# Altium footprint library ST ARM32.PcbLib: 5 footprints
Each footprint in its own frame and in the unit in brackets; x right, y up, seen from the top. Pads: shape width x height; smd on the part's side, far side on the other; paste and mask are expansions set on the pad; w line width, h text height; cw(c..) or ccw(c..) is an arc to the next point about the centre after c.
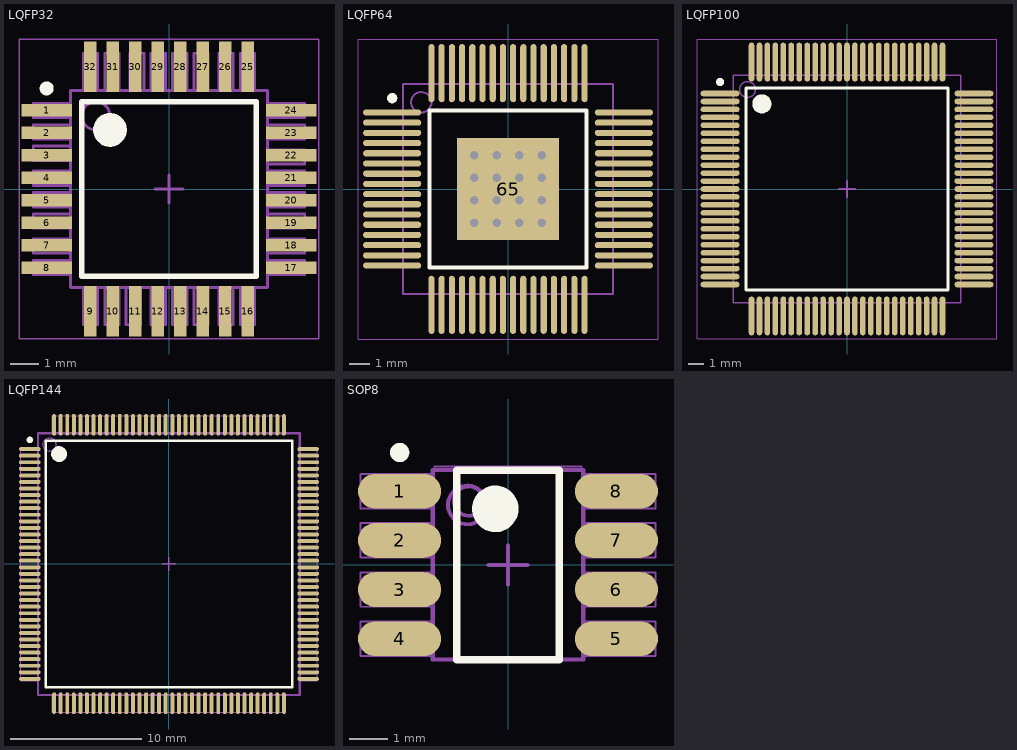
[diagram p0: the footprints below, top view; thin cyan lines are the x and y axes]

## LQFP32 [mm] "LQFP, 32-Leads, Body 7.00x7.00mm, Pitch 0.80mm, IPC Medium Density"
height 1.45
pads (32):
  rect 1.8x0.45 smd: 1(-4.35,2.8) 2(-4.35,2) 3(-4.35,1.2) 4(-4.35,0.4) 5(-4.35,-0.4) 6(-4.35,-1.2) 7(-4.35,-2) 8(-4.35,-2.8) 17(4.35,-2.8) 18(4.35,-2) 19(4.35,-1.2) 20(4.35,-0.4) 21(4.35,0.4) 22(4.35,1.2) 23(4.35,2) 24(4.35,2.8)
  rect 0.45x1.8 smd: 9(-2.8,-4.35) 10(-2,-4.35) 11(-1.2,-4.35) 12(-0.4,-4.35) 13(0.4,-4.35) 14(1.2,-4.35) 15(2,-4.35) 16(2.8,-4.35) 25(2.8,4.35) 26(2,4.35) 27(1.2,4.35) 28(0.4,4.35) 29(-0.4,4.35) 30(-1.2,4.35) 31(-2,4.35) 32(-2.8,4.35)
Top Overlay:
  circle w0.6: c-2.1,2.1 r0.3
  circle w0.25: c-4.35,3.575 r0.125
  lines w0.2: -3.1,-3.1 3.1,-3.1 3.1,3.1 -3.1,3.1 -3.1,-3.1
Mechanical 13:
  circle w0.1: c-2.6,2.6 r0.5
  lines w0.1: -3.5,-3.048 -4.826,-3.048 -4.826,-2.54 -3.5,-2.54 ; -3.5,-2.286 -4.826,-2.286 -4.826,-1.778 -3.5,-1.778 ; -3.5,-1.397 -4.826,-1.397 -4.826,-0.889 -3.5,-0.889 ; -3.5,-0.635 -4.826,-0.635 -4.826,-0.127 -3.5,-0.127 ; -3.5,0.127 -4.826,0.127 -4.826,0.635 -3.5,0.635 ; -3.5,1.016 -4.826,1.016 -4.826,1.524 -3.5,1.524 ; -3.5,1.778 -4.826,1.778 -4.826,2.286 -3.5,2.286 ; -3.5,2.54 -4.826,2.54 -4.826,3.048 -3.5,3.048 ; -3.048,-3.5 -3.048,-4.826 -2.54,-4.826 -2.54,-3.5 ; -3.048,3.5 -3.048,4.826 -2.54,4.826 -2.54,3.5 ; -2.286,-3.5 -2.286,-4.826 -1.778,-4.826 -1.778,-3.5 ; -2.286,3.5 -2.286,4.826 -1.778,4.826 -1.778,3.5 ; -1.524,-3.5 -1.524,-4.826 -1.016,-4.826 -1.016,-3.5 ; -1.397,3.5 -1.397,4.826 -0.889,4.826 -0.889,3.5 ; -0.635,-3.5 -0.635,-4.826 -0.127,-4.826 -0.127,-3.5 ; -0.635,3.5 -0.635,4.826 -0.127,4.826 -0.127,3.5 ; 0.127,-3.5 0.127,-4.826 0.635,-4.826 0.635,-3.5 ; 0.127,3.5 0.127,4.826 0.635,4.826 0.635,3.5 ; 0.889,-3.5 0.889,-4.826 1.397,-4.826 1.397,-3.5 ; 0.889,3.5 0.889,4.826 1.397,4.826 1.397,3.5 ; 1.778,-3.5 1.778,-4.826 2.286,-4.826 2.286,-3.5 ; 1.778,3.5 1.778,4.826 2.286,4.826 2.286,3.5 ; 2.54,-3.5 2.54,-4.826 3.048,-4.826 3.048,-3.5 ; 2.54,3.5 2.54,4.826 3.048,4.826 3.048,3.5 ; 3.5,-3.048 4.826,-3.048 4.826,-2.54 3.5,-2.54 ; 3.5,-2.286 4.826,-2.286 4.826,-1.778 3.5,-1.778 ; 3.5,-1.397 4.826,-1.397 4.826,-0.889 3.5,-0.889 ; 3.5,-0.635 4.826,-0.635 4.826,-0.127 3.5,-0.127 ; 3.5,0.127 4.826,0.127 4.826,0.635 3.5,0.635 ; 3.5,0.889 4.826,0.889 4.826,1.397 3.5,1.397 ; 3.5,1.778 4.826,1.778 4.826,2.286 3.5,2.286 ; 3.5,2.54 4.826,2.54 4.826,3.048 3.5,3.048 ; -3.5,-3.5 3.5,-3.5 3.5,3.5 -3.5,3.5 -3.5,-3.5
  text ".Designator" at -1.27,0 h0.8
  text "1" at -5.969,2.667 h0.8
Mechanical 15:
  lines w0.05: -5.334,-5.334 5.334,-5.334 5.334,5.334 -5.334,5.334 -5.334,-5.334
  lines w0.1: -0.5,0 0.5,0 ; 0,-0.5 0,0.5
3D body "LQFP32.STEP": height 1.62, standoff -0.01, extent -4.572,-4.572 4.572,4.572

## LQFP64 [mm]
height 1.6
pads (65):
  oval 2.85x0.3 smd: 1(-5.675,3.75) 2(-5.675,3.25) 3(-5.675,2.75) 4(-5.675,2.25) 5(-5.675,1.75) 6(-5.675,1.25) 7(-5.675,0.75) 8(-5.675,0.25) 9(-5.675,-0.25) 10(-5.675,-0.75) 11(-5.675,-1.25) 12(-5.675,-1.75) 13(-5.675,-2.25) 14(-5.675,-2.75) 15(-5.675,-3.25) 16(-5.675,-3.75) 33(5.675,-3.75) 34(5.675,-3.25) 35(5.675,-2.75) 36(5.675,-2.25) 37(5.675,-1.75) 38(5.675,-1.25) 39(5.675,-0.75) 40(5.675,-0.25) 41(5.675,0.25) 42(5.675,0.75) 43(5.675,1.25) 44(5.675,1.75) 45(5.675,2.25) 46(5.675,2.75) 47(5.675,3.25) 48(5.675,3.75)
  oval 0.3x2.85 smd: 17(-3.75,-5.675) 18(-3.25,-5.675) 19(-2.75,-5.675) 20(-2.25,-5.675) 21(-1.75,-5.675) 22(-1.25,-5.675) 23(-0.75,-5.675) 24(-0.25,-5.675) 25(0.25,-5.675) 26(0.75,-5.675) 27(1.25,-5.675) 28(1.75,-5.675) 29(2.25,-5.675) 30(2.75,-5.675) 31(3.25,-5.675) 32(3.75,-5.675) 49(3.75,5.675) 50(3.25,5.675) 51(2.75,5.675) 52(2.25,5.675) 53(1.75,5.675) 54(1.25,5.675) 55(0.75,5.675) 56(0.25,5.675) 57(-0.25,5.675) 58(-0.75,5.675) 59(-1.25,5.675) 60(-1.75,5.675) 61(-2.25,5.675) 62(-2.75,5.675) 63(-3.25,5.675) 64(-3.75,5.675)
  rect 5x5 smd: 65(0,0)
via 1.65,-1.65 diameter 0.8 hole 0.4
via 0.55,-1.65 diameter 0.8 hole 0.4
via -0.55,-1.65 diameter 0.8 hole 0.4
via -1.65,-1.65 diameter 0.8 hole 0.4
via 1.65,-0.55 diameter 0.8 hole 0.4
via 0.55,-0.55 diameter 0.8 hole 0.4
via -0.55,-0.55 diameter 0.8 hole 0.4
via -1.65,-0.55 diameter 0.8 hole 0.4
via 1.65,0.55 diameter 0.8 hole 0.4
via 0.55,0.55 diameter 0.8 hole 0.4
via -0.55,0.55 diameter 0.8 hole 0.4
via -1.65,0.55 diameter 0.8 hole 0.4
via 1.65,1.65 diameter 0.8 hole 0.4
via 0.55,1.65 diameter 0.8 hole 0.4
via -0.55,1.65 diameter 0.8 hole 0.4
via -1.65,1.65 diameter 0.8 hole 0.4
Top Overlay:
  circle w0.25: c-5.675,4.45 r0.125
  lines w0.2: -3.85,-3.85 3.85,-3.85 3.85,3.85 -3.85,3.85 -3.85,-3.85
Mechanical 13:
  circle w0.1: c-4.25,4.25 r0.5
  lines w0.1: -5.15,-5.15 5.15,-5.15 5.15,5.15 -5.15,5.15 -5.15,-5.15
Mechanical 15:
  lines w0.05: -7.35,-7.35 7.35,-7.35 7.35,7.35 -7.35,7.35 -7.35,-7.35
  lines w0.1: -0.5,0 0.5,0 ; 0,-0.5 0,0.5
3D body "lqfp64.STEP": height 1.6, standoff 0, extent -6,-6 6,6

## LQFP100 [mm]
height 2.45
pads (100):
  oval 2.45x0.35 smd: 1(-7.975,6) 2(-7.975,5.5) 3(-7.975,5) 4(-7.975,4.5) 5(-7.975,4) 6(-7.975,3.5) 7(-7.975,3) 8(-7.975,2.5) 9(-7.975,2) 10(-7.975,1.5) 11(-7.975,1) 12(-7.975,0.5) 13(-7.975,0) 14(-7.975,-0.5) 15(-7.975,-1) 16(-7.975,-1.5) 17(-7.975,-2) 18(-7.975,-2.5) 19(-7.975,-3) 20(-7.975,-3.5) 21(-7.975,-4) 22(-7.975,-4.5) 23(-7.975,-5) 24(-7.975,-5.5) 25(-7.975,-6) 51(7.975,-6) 52(7.975,-5.5) 53(7.975,-5) 54(7.975,-4.5) 55(7.975,-4) 56(7.975,-3.5) 57(7.975,-3) 58(7.975,-2.5) 59(7.975,-2) 60(7.975,-1.5) 61(7.975,-1) 62(7.975,-0.5) 63(7.975,0) 64(7.975,0.5) 65(7.975,1) 66(7.975,1.5) 67(7.975,2) 68(7.975,2.5) 69(7.975,3) 70(7.975,3.5) 71(7.975,4) 72(7.975,4.5) 73(7.975,5) 74(7.975,5.5) 75(7.975,6)
  oval 0.35x2.45 smd: 26(-6,-7.975) 27(-5.5,-7.975) 28(-5,-7.975) 29(-4.5,-7.975) 30(-4,-7.975) 31(-3.5,-7.975) 32(-3,-7.975) 33(-2.5,-7.975) 34(-2,-7.975) 35(-1.5,-7.975) 36(-1,-7.975) 37(-0.5,-7.975) 38(0,-7.975) 39(0.5,-7.975) 40(1,-7.975) 41(1.5,-7.975) 42(2,-7.975) 43(2.5,-7.975) 44(3,-7.975) 45(3.5,-7.975) 46(4,-7.975) 47(4.5,-7.975) 48(5,-7.975) 49(5.5,-7.975) 50(6,-7.975) 76(6,7.975) 77(5.5,7.975) 78(5,7.975) 79(4.5,7.975) 80(4,7.975) 81(3.5,7.975) 82(3,7.975) 83(2.5,7.975) 84(2,7.975) 85(1.5,7.975) 86(1,7.975) 87(0.5,7.975) 88(0,7.975) 89(-0.5,7.975) 90(-1,7.975) 91(-1.5,7.975) 92(-2,7.975) 93(-2.5,7.975) 94(-3,7.975) 95(-3.5,7.975) 96(-4,7.975) 97(-4.5,7.975) 98(-5,7.975) 99(-5.5,7.975) 100(-6,7.975)
Top Overlay:
  circle w0.25: c-7.975,6.725 r0.125
  circle w0.6: c-5.35,5.35 r0.3
  lines w0.2: -6.35,-6.35 -6.35,6.35 6.35,6.35 6.35,-6.35 -6.35,-6.35
Mechanical 13:
  circle w0.1: c-6.25,6.25 r0.5
  lines w0.1: -7.15,-7.15 -7.15,7.15 7.15,7.15 7.15,-7.15 -7.15,-7.15
Mechanical 15:
  lines w0.05: -9.425,-9.425 -9.425,9.425 9.425,9.425 9.425,-9.425 -9.425,-9.425
  lines w0.1: -0.5,0 0.5,0 ; 0,-0.5 0,0.5
3D body: height 2.45, standoff 0.25, extent -7.15,-7.15 7.15,7.15

## LQFP144 [mm] "TSQFP, 144-Leads, Body 20.00x20.00mm, Pitch 0.50mm, IPC Medium Density"
height 1.6
pads (144):
  oval 1.65x0.3 smd: 1(-10.6,8.75) 2(-10.6,8.25) 3(-10.6,7.75) 4(-10.6,7.25) 5(-10.6,6.75) 6(-10.6,6.25) 7(-10.6,5.75) 8(-10.6,5.25) 9(-10.6,4.75) 10(-10.6,4.25) 11(-10.6,3.75) 12(-10.6,3.25) 13(-10.6,2.75) 14(-10.6,2.25) 15(-10.6,1.75) 16(-10.6,1.25) 17(-10.6,0.75) 18(-10.6,0.25) 19(-10.6,-0.25) 20(-10.6,-0.75) 21(-10.6,-1.25) 22(-10.6,-1.75) 23(-10.6,-2.25) 24(-10.6,-2.75) 25(-10.6,-3.25) 26(-10.6,-3.75) 27(-10.6,-4.25) 28(-10.6,-4.75) 29(-10.6,-5.25) 30(-10.6,-5.75) 31(-10.6,-6.25) 32(-10.6,-6.75) 33(-10.6,-7.25) 34(-10.6,-7.75) 35(-10.6,-8.25) 36(-10.6,-8.75) 73(10.6,-8.75) 74(10.6,-8.25) 75(10.6,-7.75) 76(10.6,-7.25) 77(10.6,-6.75) 78(10.6,-6.25) 79(10.6,-5.75) 80(10.6,-5.25) 81(10.6,-4.75) 82(10.6,-4.25) 83(10.6,-3.75) 84(10.6,-3.25) 85(10.6,-2.75) 86(10.6,-2.25) 87(10.6,-1.75) 88(10.6,-1.25) 89(10.6,-0.75) 90(10.6,-0.25) 91(10.6,0.25) 92(10.6,0.75) 93(10.6,1.25) 94(10.6,1.75) 95(10.6,2.25) 96(10.6,2.75) 97(10.6,3.25) 98(10.6,3.75) 99(10.6,4.25) 100(10.6,4.75) 101(10.6,5.25) 102(10.6,5.75) 103(10.6,6.25) 104(10.6,6.75) 105(10.6,7.25) 106(10.6,7.75) 107(10.6,8.25) 108(10.6,8.75)
  oval 0.3x1.65 smd: 37(-8.75,-10.6) 38(-8.25,-10.6) 39(-7.75,-10.6) 40(-7.25,-10.6) 41(-6.75,-10.6) 42(-6.25,-10.6) 43(-5.75,-10.6) 44(-5.25,-10.6) 45(-4.75,-10.6) 46(-4.25,-10.6) 47(-3.75,-10.6) 48(-3.25,-10.6) 49(-2.75,-10.6) 50(-2.25,-10.6) 51(-1.75,-10.6) 52(-1.25,-10.6) 53(-0.75,-10.6) 54(-0.25,-10.6) 55(0.25,-10.6) 56(0.75,-10.6) 57(1.25,-10.6) 58(1.75,-10.6) 59(2.25,-10.6) 60(2.75,-10.6) 61(3.25,-10.6) 62(3.75,-10.6) 63(4.25,-10.6) 64(4.75,-10.6) 65(5.25,-10.6) 66(5.75,-10.6) 67(6.25,-10.6) 68(6.75,-10.6) 69(7.25,-10.6) 70(7.75,-10.6) 71(8.25,-10.6) 72(8.75,-10.6) 109(8.75,10.6) 110(8.25,10.6) 111(7.75,10.6) 112(7.25,10.6) 113(6.75,10.6) 114(6.25,10.6) 115(5.75,10.6) 116(5.25,10.6) 117(4.75,10.6) 118(4.25,10.6) 119(3.75,10.6) 120(3.25,10.6) 121(2.75,10.6) 122(2.25,10.6) 123(1.75,10.6) 124(1.25,10.6) 125(0.75,10.6) 126(0.25,10.6) 127(-0.25,10.6) 128(-0.75,10.6) 129(-1.25,10.6) 130(-1.75,10.6) 131(-2.25,10.6) 132(-2.75,10.6) 133(-3.25,10.6) 134(-3.75,10.6) 135(-4.25,10.6) 136(-4.75,10.6) 137(-5.25,10.6) 138(-5.75,10.6) 139(-6.25,10.6) 140(-6.75,10.6) 141(-7.25,10.6) 142(-7.75,10.6) 143(-8.25,10.6) 144(-8.75,10.6)
Top Overlay:
  circle w0.6: c-8.375,8.375 r0.3
  circle w0.25: c-10.6,9.45 r0.125
  lines w0.2: -9.375,-9.375 9.375,-9.375 9.375,9.375 -9.375,9.375 -9.375,-9.375
Mechanical 13:
  circle w0.1: c-9.1,9.1 r0.5
  lines w0.1: -10,-10 10,-10 10,10 -10,10 -10,-10
Mechanical 15:
  lines w0.05: -9.906,-8.89 -11.303,-8.89 -11.303,8.89 -9.906,8.89 ; -8.89,-9.906 -8.89,-11.303 8.89,-11.303 8.89,-9.906 ; -8.89,9.906 -8.89,11.303 8.89,11.303 8.89,9.906 ; 9.906,-8.89 11.303,-8.89 11.303,8.89 9.906,8.89 ; -9.906,-9.906 9.906,-9.906 9.906,9.906 -9.906,9.906 -9.906,-9.906
  lines w0.1: -0.5,0 0.5,0 ; 0,-0.5 0,0.5
3D body "LQFP144.step": height 1.6, standoff 0, extent -11.075,-11.075 11.075,11.075

## SOP8 [mm] "SOP, 8-Leads, Body 4.90x3.90mm, Pitch 1.27mm, IPC Medium Density"
height 1.75
pads (8):
  oval 2.15x0.9 smd: 1(-2.8,1.905) 2(-2.8,0.635) 3(-2.8,-0.635) 4(-2.8,-1.905) 5(2.8,-1.905) 6(2.8,-0.635) 7(2.8,0.635) 8(2.8,1.905)
Top Overlay:
  circle w0.6: c-0.325,1.45 r0.3
  circle w0.25: c-2.8,2.905 r0.125
  lines w0.2: -1.325,-2.45 1.325,-2.45 1.325,2.45 -1.325,2.45 -1.325,-2.45
Mechanical 13:
  circle w0.1: c-1.05,1.55 r0.5
  lines w0.1: -1.95,-2.45 1.95,-2.45 1.95,2.45 -1.95,2.45 -1.95,-2.45
Mechanical 15:
  circle w0.1: c-1.016,1.651 r0.381
  lines w0.05: -1.905,-2.349 -3.81,-2.349 -3.81,-1.46 -1.905,-1.46 ; -1.905,-1.079 -3.81,-1.079 -3.81,-0.191 -1.905,-0.191 ; -1.905,0.191 -3.81,0.191 -3.81,1.079 -1.905,1.079 ; -1.905,1.46 -3.81,1.46 -3.81,2.349 -1.905,2.349 ; 1.905,-2.349 3.81,-2.349 3.81,-1.46 1.905,-1.46 ; 1.905,-1.079 3.81,-1.079 3.81,-0.191 1.905,-0.191 ; 1.905,0.191 3.81,0.191 3.81,1.079 1.905,1.079 ; 1.905,1.46 3.81,1.46 3.81,2.349 1.905,2.349 ; -1.905,-2.413 1.905,-2.413 1.905,2.54 -1.905,2.54 -1.905,-2.413
  lines w0.1: -0.5,0 0.5,0 ; 0,-0.5 0,0.5
  text "1" at -4.572,1.524 h0.7
3D body: height 1.75, standoff 0.1, extent -1.95,-2.45 1.95,2.45